# Altium footprint library PcbLib1.PcbLib: 202 footprints (part 3 of 13)
Each footprint in its own frame and in the unit in brackets; x right, y up, seen from the top. Pads: shape width x height; smd on the part's side, far side on the other; paste and mask are expansions set on the pad; w line width, h text height; cw(c..) or ccw(c..) is an arc to the next point about the centre after c.
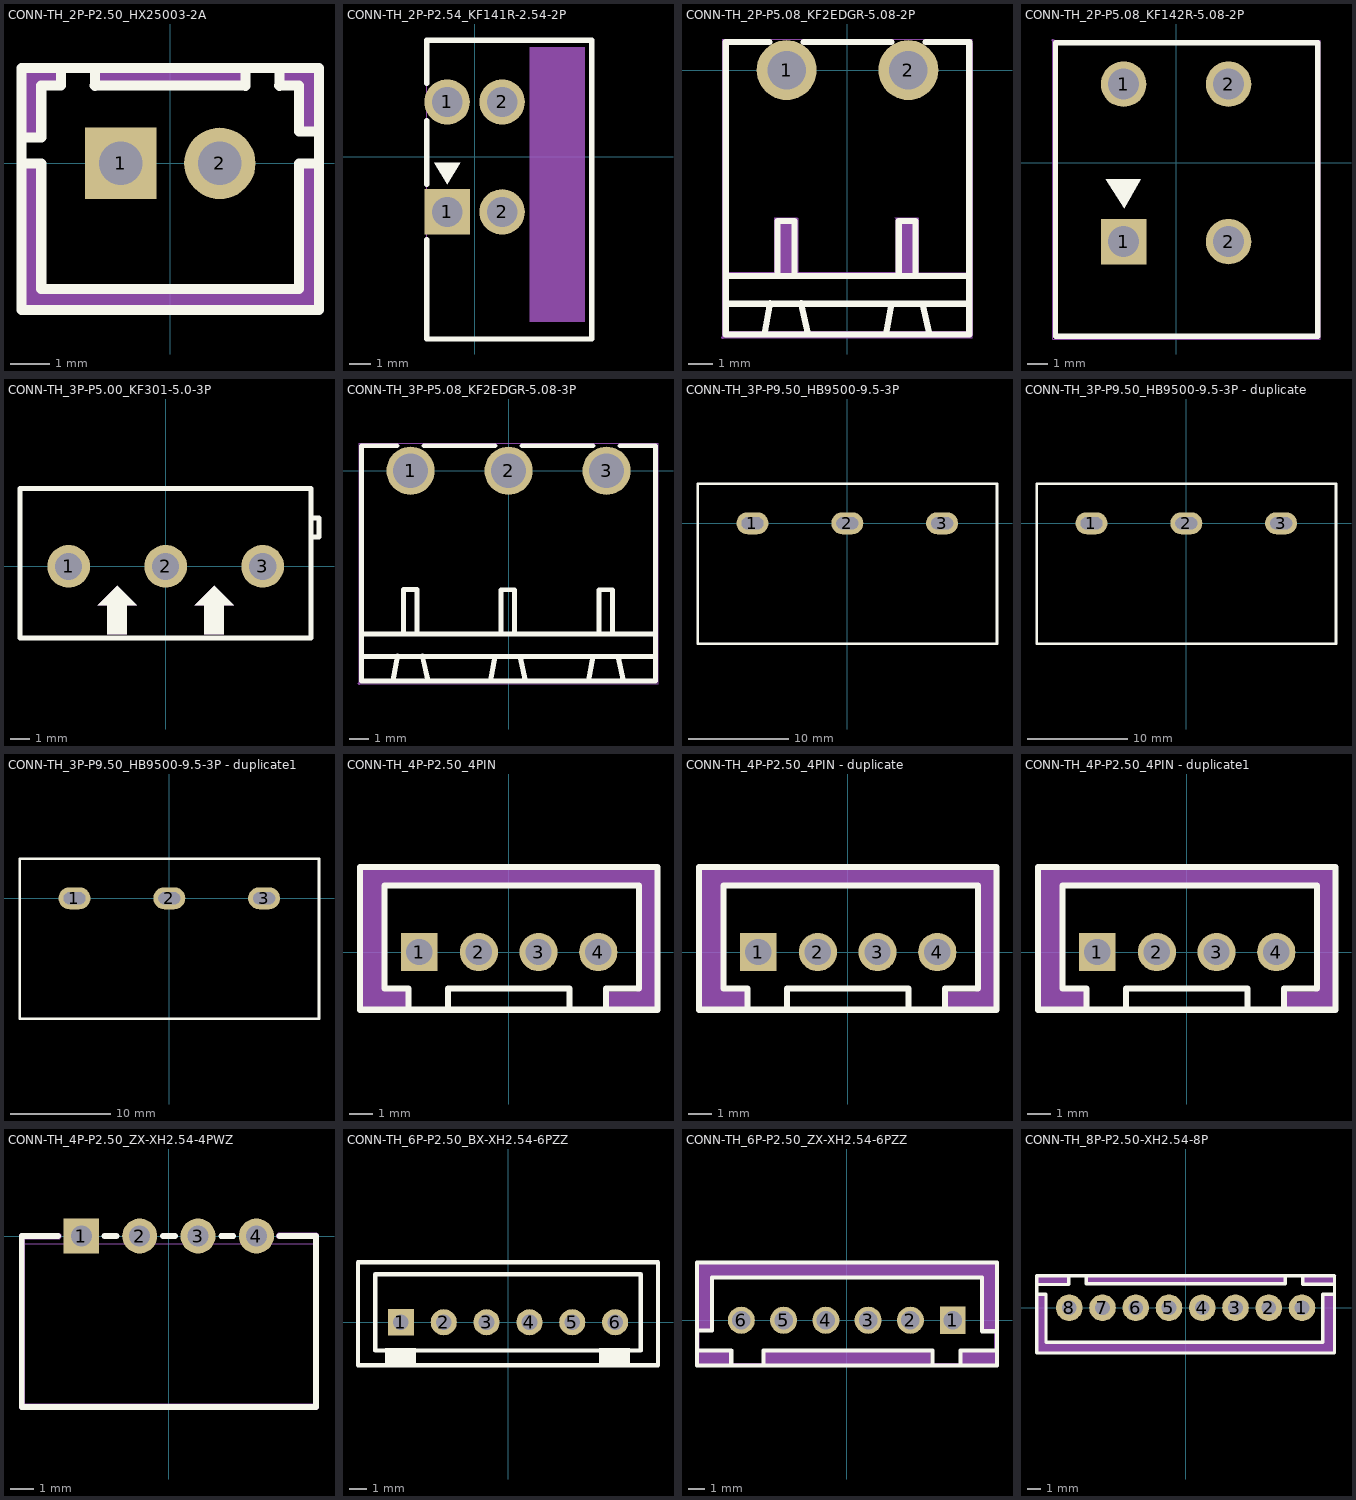
[diagram p2: the footprints below, top view; thin cyan lines are the x and y axes]

## CONN-TH_2P-P2.50_HX25003-2A [mm]
pads (2):
  rect 1.8x1.8 hole 1.1 paste-2539.97 mask+0.05: 1(-1.25,0)
  round 1.8 hole 1.1 paste-2539.97 mask+0.05: 2(1.25,0)
Top Overlay:
  lines w0.254: -3.75,-2.416 -3.75,0 -3.25,0 -3.25,-2.416 -3.25,-3.167 3.25,-3.167 3.25,-2.344 3.25,0 3.75,0 3.75,-2.344 ; -3.75,-1.603 -3.75,0.648 -3.25,0.65 -3.25,1.958 -2.75,1.958 -2.75,2.408 ; -1.9,1.95 -1.9,2.4 ; -1.9,1.958 1.9,1.958 ; 1.9,1.95 1.9,2.4 ; 2.75,1.95 2.75,2.399 ; 2.75,1.958 3.25,1.958 3.25,0.8 3.75,0.8 3.75,-1.501 ; -3.75,-3.7 3.75,-3.7 3.75,2.4 -3.75,2.4 -3.75,-3.7
Mechanical 6:
  region: 2.75,1.95 3.242,1.95 3.25,1.958 3.25,0.8 3.75,0.8 3.75,2.4 2.751,2.4 2.75,2.399
  region: -2.75,1.9 -3.241,1.9 -3.25,1.908 -3.25,0.75 -3.75,0.75 -3.75,2.35 -2.751,2.35 -2.75,2.349
  region: 3.25,0 3.75,0 3.75,-3.7 -3.75,-3.7 -3.75,-0.05 -3.25,0 -3.25,-3.167 3.25,-3.167
  region: 1.9,2.4 1.9,1.9 -1.9,1.9 -1.9,2.4
Mechanical 15:
  region: 0.93,0.32 1.57,0.32 1.57,-0.32 0.93,-0.32
  region: -1.57,0.32 -0.93,0.32 -0.93,-0.32 -1.57,-0.32
  region: -3.69,-3.5 -3.69,-3.475 -3.725,-3.44 -3.775,-3.44 -3.81,-3.475 -3.81,-3.5 -3.81,-3.525 -3.775,-3.56 -3.725,-3.56 -3.69,-3.525
  lines w0.051: -3.75,-3.5 -3.75,2.4 3.75,2.4 3.75,-3.5 -3.75,-3.5

## CONN-TH_2P-P2.54_KF141R-2.54-2P [mm]
pads (4):
  rect 2.1x2.1 hole 1.4: 1(-1.27,-2.54)
  round 2.1 hole 1.4: 1(-1.27,2.54) 2(1.27,-2.54) 2(1.27,2.54)
Top Overlay:
  region: -1.27,-1.27 -0.67,-0.27 -1.87,-0.27
  lines w0.254: -2.22,-3.821 -2.22,-8.41 5.4,-8.41 5.4,5.39 -2.22,5.39 -2.22,3.398 ; -2.22,-1.259 -2.22,1.682
Mechanical 6:
  region: 2.54,5.08 2.54,-7.62 5.08,-7.62 5.08,5.08
Mechanical 15:
  region: -2.16,5.39 -2.16,5.415 -2.195,5.45 -2.245,5.45 -2.28,5.415 -2.28,5.39 -2.28,5.365 -2.245,5.33 -2.195,5.33 -2.16,5.365
  region: -1.02,2.19 -1.52,2.19 -1.52,2.89 -1.02,2.89
  region: 1.52,2.19 1.02,2.19 1.02,2.89 1.52,2.89
  region: 1.52,-2.89 1.02,-2.89 1.02,-2.19 1.52,-2.19
  region: -1.02,-2.19 -1.02,-2.89 -1.52,-2.89 -1.52,-2.19
  lines w0.051: -2.22,-8.41 -2.22,5.39 5.4,5.39 5.4,-8.41 -2.22,-8.41

## CONN-TH_2P-P5.08_KF2EDGR-5.08-2P [mil]
pads (2):
  round 98.4 hole 63: 1(-100,0) 2(100,0)
Top Overlay:
  lines w10: -200,-383.7 200,-383.7 ; -200,-338 200,-338 ; -136.2,-433.4 -127,-382.9 ; -127.9,46.1 -200,46.1 -200,-434.2 200,-434.2 200,46.1 127.8,46.1 ; -114.7,-335.6 -114.7,-247.7 -87,-247.7 -87,-335.6 -87,-332.7 ; -76,-382.9 -64.5,-433.4 ; -72.2,46.1 72.1,46.1 ; 63,-434.2 72.2,-383.8 ; 84.2,-335.7 84.2,-247.8 111.9,-247.8 111.9,-335.7 111.9,-332.8 ; 123.2,-383.8 134.7,-434.2
Mechanical 2:
  region: -200,-332.1 -120,-332.1 -120,-242.8 -120.4,-242.5 -82.2,-242.5 -81.1,-243.6 -81.1,-331 -80.4,-331.7 78.5,-331.7 78.9,-332.1 78.9,-243.9 77.8,-242.8 116.6,-242.8 117,-243.2 117,-332.5 117.4,-332.8 204.8,-332.8 205.2,-333.2 205.2,-342.8 -199.6,-342.8 -200,-343.2
  region: -195.8,46.1 -195.8,-429.2 195.7,-429.2 195.7,42.2 196.1,44.1 197.2,45.7 198.8,46.8 200.7,47.2 202.7,46.8 204.3,45.7 205.4,44.1 205.7,42.2 205.7,-434.2 205.4,-436.1 204.3,-437.7 202.7,-438.8 200.7,-439.2 -200.8,-439.2 -202.7,-438.8 -204.4,-437.7 -205.4,-436.1 -205.8,-434.2 -205.8,46.1 -205.4,48 -204.4,49.7 -202.7,50.8 -200.8,51.1 -198.9,50.8 -197.3,49.7 -196.2,48
Mechanical 6:
  lines w2: -205,-439.2 205,-439.2 205,51.1 -205,51.1 -205,-439.2
Mechanical 8:
  region: -202.7,-439.2 -203.1,-440.5 -204.1,-441.4 -205.4,-441.6 -206.6,-441 -207.3,-439.9 -207.3,-438.6 -206.6,-437.5 -205.4,-436.9 -204.1,-437.1 -203.1,-438
Mechanical 9:
  region: 80.3,19.6 119.6,19.6 119.6,-19.7 80.3,-19.7
  region: -119.7,19.6 -80.4,19.6 -80.4,-19.7 -119.7,-19.7

## CONN-TH_2P-P5.08_KF142R-5.08-2P [mm]
pads (4):
  rect 2.2x2.2 hole 1.5: 1(-2.54,-3.81)
  round 2.2 hole 1.5: 1(-2.54,3.81) 2(2.54,-3.81) 2(2.54,3.81)
Top Overlay:
  region: -2.5,-2.2 -1.7,-0.8 -3.4,-0.8
  lines w0.254: 6.86,-8.4 6.86,5.8 ; 6.86,-8.39 -5.84,-8.39 -5.84,5.81 6.86,5.81
Mechanical 15:
  region: -5.907,5.937 -5.907,5.962 -5.942,5.997 -5.992,5.997 -6.027,5.962 -6.027,5.937 -6.027,5.912 -5.992,5.877 -5.942,5.877 -5.907,5.912
  region: 3.19,-3.81 3.19,-3.724 3.146,-3.559 3.06,-3.411 2.939,-3.29 2.791,-3.204 2.626,-3.16 2.454,-3.16 2.289,-3.204 2.141,-3.29 2.02,-3.411 1.934,-3.559 1.89,-3.724 1.89,-3.81 1.89,-3.896 1.934,-4.061 2.02,-4.209 2.141,-4.33 2.289,-4.416 2.454,-4.46 2.626,-4.46 2.791,-4.416 2.939,-4.33 3.06,-4.209 3.146,-4.061 3.19,-3.896
  region: -1.89,-3.81 -1.89,-3.724 -1.934,-3.559 -2.02,-3.411 -2.141,-3.29 -2.289,-3.204 -2.454,-3.16 -2.626,-3.16 -2.791,-3.204 -2.939,-3.29 -3.06,-3.411 -3.146,-3.559 -3.19,-3.724 -3.19,-3.81 -3.19,-3.896 -3.146,-4.061 -3.06,-4.209 -2.939,-4.33 -2.791,-4.416 -2.626,-4.46 -2.454,-4.46 -2.289,-4.416 -2.141,-4.33 -2.02,-4.209 -1.934,-4.061 -1.89,-3.896
  region: 3.19,3.81 3.19,3.896 3.146,4.061 3.06,4.209 2.939,4.33 2.791,4.416 2.626,4.46 2.454,4.46 2.289,4.416 2.141,4.33 2.02,4.209 1.934,4.061 1.89,3.896 1.89,3.81 1.89,3.724 1.934,3.559 2.02,3.411 2.141,3.29 2.289,3.204 2.454,3.16 2.626,3.16 2.791,3.204 2.939,3.29 3.06,3.411 3.146,3.559 3.19,3.724
  region: -1.89,3.81 -1.89,3.896 -1.934,4.061 -2.02,4.209 -2.141,4.33 -2.289,4.416 -2.454,4.46 -2.626,4.46 -2.791,4.416 -2.939,4.33 -3.06,4.209 -3.146,4.061 -3.19,3.896 -3.19,3.81 -3.19,3.724 -3.146,3.559 -3.06,3.411 -2.939,3.29 -2.791,3.204 -2.626,3.16 -2.454,3.16 -2.289,3.204 -2.141,3.29 -2.02,3.411 -1.934,3.559 -1.89,3.724
  lines w0.051: -5.967,-8.527 -5.967,5.937 6.987,5.937 6.987,-8.527 -5.967,-8.527

## CONN-TH_3P-P5.00_KF301-5.0-3P [mm]
pads (3):
  round 2.2 hole 1.4: 1(-4.999,0) 2(0,0) 3(5.001,0)
Top Overlay:
  region: -2.499,-0.998 -3.5,-1.999 -1.499,-1.999
  region: -3,-1.999 -1.999,-1.999 -1.999,-3.5 -3,-3.5
  region: 2.502,-0.998 1.501,-1.999 3.5,-1.999
  region: 2.002,-1.999 3,-1.999 3,-3.5 2.002,-3.5
  lines w0.254: 7.501,1.501 7.902,1.501 7.902,2.502 7.501,2.502 ; -7.498,-3.698 7.501,-3.698 7.501,4 -7.498,4 -7.498,-3.698
Mechanical 2:
  region: -3,-1.999 -1.999,-1.999 -1.999,-3.5 -3,-3.5
  region: -2.499,-0.998 -3.5,-1.999 -1.499,-1.999
  region: 2.502,-0.998 1.501,-1.999 3.5,-1.999
  region: 2.002,-1.999 3,-1.999 3,-3.5 2.002,-3.5
Mechanical 6:
  lines w0.051: -7.498,-3.698 -7.498,4 7.501,4 7.501,-3.698 -7.498,-3.698
Mechanical 8:
  region: -7.44,-3.698 -7.45,-3.731 -7.475,-3.754 -7.508,-3.759 -7.539,-3.744 -7.556,-3.716 -7.556,-3.683 -7.539,-3.655 -7.508,-3.64 -7.475,-3.645 -7.45,-3.668
Mechanical 9:
  region: 5.601,0 5.591,-0.107 5.563,-0.211 5.517,-0.307 5.453,-0.394 5.375,-0.467 5.286,-0.528 5.187,-0.569 5.083,-0.594 4.973,-0.599 4.867,-0.584 4.765,-0.551 4.671,-0.5 4.587,-0.432 4.516,-0.353 4.46,-0.259 4.422,-0.16 4.404,-0.053 4.404,0.053 4.422,0.16 4.46,0.262 4.516,0.353 4.587,0.434 4.671,0.5 4.765,0.554 4.867,0.587 4.973,0.599 5.083,0.594 5.187,0.572 5.286,0.528 5.375,0.47 5.453,0.396 5.517,0.307 5.563,0.211 5.591,0.107
  region: 0.602,0 0.592,-0.107 0.564,-0.211 0.516,-0.307 0.452,-0.394 0.376,-0.467 0.284,-0.528 0.185,-0.569 0.081,-0.594 -0.025,-0.599 -0.132,-0.584 -0.234,-0.551 -0.33,-0.5 -0.414,-0.432 -0.485,-0.353 -0.538,-0.259 -0.577,-0.16 -0.597,-0.053 -0.597,0.053 -0.577,0.16 -0.538,0.262 -0.485,0.353 -0.414,0.434 -0.33,0.5 -0.234,0.554 -0.132,0.587 -0.025,0.599 0.081,0.594 0.185,0.572 0.284,0.528 0.376,0.47 0.452,0.396 0.516,0.307 0.564,0.211 0.592,0.107
  region: -4.399,0 -4.409,-0.107 -4.437,-0.211 -4.483,-0.307 -4.547,-0.394 -4.625,-0.467 -4.714,-0.528 -4.813,-0.569 -4.917,-0.594 -5.027,-0.599 -5.133,-0.584 -5.235,-0.551 -5.329,-0.5 -5.413,-0.432 -5.484,-0.353 -5.54,-0.259 -5.578,-0.16 -5.596,-0.053 -5.596,0.053 -5.578,0.16 -5.54,0.262 -5.484,0.353 -5.413,0.434 -5.329,0.5 -5.235,0.554 -5.133,0.587 -5.027,0.599 -4.917,0.594 -4.813,0.572 -4.714,0.528 -4.625,0.47 -4.547,0.396 -4.483,0.307 -4.437,0.211 -4.409,0.107

## CONN-TH_3P-P5.08_KF2EDGR-5.08-3P [mm]
pads (3):
  round 2.499 hole 1.801: 1(-5.08,0) 2(0,0) 3(5.08,0)
Top Overlay:
  lines w0.254: -7.62,-9.619 7.62,-9.619 ; -7.62,-8.458 7.62,-8.458 ; -5.999,-10.881 -5.766,-9.599 ; -5.789,1.298 -7.62,1.298 -7.62,-10.902 7.62,-10.902 7.62,1.298 5.786,1.298 ; -5.453,-8.397 -5.453,-6.165 -4.75,-6.165 -4.75,-8.397 -4.75,-8.324 ; -4.47,-9.599 -4.178,-10.881 ; -4.374,1.298 -0.709,1.298 ; -0.94,-10.902 -0.706,-9.622 ; -0.401,-8.4 -0.401,-6.167 0.302,-6.167 0.302,-8.4 0.302,-8.326 ; 0.589,-9.622 0.881,-10.902 ; 0.706,1.298 4.371,1.298 ; 4.14,-10.902 4.374,-9.622 ; 4.679,-8.402 4.679,-6.17 5.382,-6.17 5.382,-8.402 ; 5.669,-9.622 5.961,-10.902
Mechanical 6:
  lines w0.051: -7.747,-11.029 -7.747,1.425 7.747,1.425 7.747,-11.029 -7.747,-11.029
Mechanical 8:
  region: -7.689,-11.029 -7.699,-11.062 -7.724,-11.085 -7.757,-11.09 -7.788,-11.074 -7.805,-11.046 -7.805,-11.013 -7.788,-10.986 -7.757,-10.97 -7.724,-10.975 -7.699,-10.998
Mechanical 9:
  region: 5.88,0 5.87,-0.127 5.839,-0.249 5.791,-0.363 5.725,-0.472 5.644,-0.566 5.55,-0.648 5.443,-0.714 5.326,-0.762 5.204,-0.792 5.08,-0.8 4.953,-0.792 4.831,-0.762 4.717,-0.714 4.608,-0.648 4.514,-0.566 4.432,-0.472 4.366,-0.363 4.318,-0.249 4.29,-0.127 4.28,0 4.29,0.124 4.318,0.246 4.366,0.361 4.432,0.47 4.514,0.564 4.608,0.645 4.717,0.711 4.831,0.759 4.953,0.79 5.08,0.798 5.204,0.79 5.326,0.759 5.443,0.711 5.55,0.645 5.644,0.564 5.725,0.47 5.791,0.361 5.839,0.246 5.87,0.124
  region: 0.8,0 0.79,-0.127 0.759,-0.249 0.711,-0.363 0.645,-0.472 0.564,-0.566 0.47,-0.648 0.363,-0.714 0.246,-0.762 0.124,-0.792 0,-0.8 -0.127,-0.792 -0.249,-0.762 -0.363,-0.714 -0.472,-0.648 -0.566,-0.566 -0.648,-0.472 -0.714,-0.363 -0.762,-0.249 -0.79,-0.127 -0.8,0 -0.79,0.124 -0.762,0.246 -0.714,0.361 -0.648,0.47 -0.566,0.564 -0.472,0.645 -0.363,0.711 -0.249,0.759 -0.127,0.79 0,0.798 0.124,0.79 0.246,0.759 0.363,0.711 0.47,0.645 0.564,0.564 0.645,0.47 0.711,0.361 0.759,0.246 0.79,0.124
  region: -4.28,0 -4.29,-0.127 -4.321,-0.249 -4.369,-0.363 -4.435,-0.472 -4.516,-0.566 -4.61,-0.648 -4.717,-0.714 -4.834,-0.762 -4.956,-0.792 -5.08,-0.8 -5.207,-0.792 -5.329,-0.762 -5.443,-0.714 -5.552,-0.648 -5.646,-0.566 -5.728,-0.472 -5.794,-0.363 -5.842,-0.249 -5.87,-0.127 -5.88,0 -5.87,0.124 -5.842,0.246 -5.794,0.361 -5.728,0.47 -5.646,0.564 -5.552,0.645 -5.443,0.711 -5.329,0.759 -5.207,0.79 -5.08,0.798 -4.956,0.79 -4.834,0.759 -4.717,0.711 -4.61,0.645 -4.516,0.564 -4.435,0.47 -4.369,0.361 -4.321,0.246 -4.29,0.124

## CONN-TH_3P-P9.50_HB9500-9.5-3P [mm]
pads (3):
  oval 3.2x2.2 hole 1.2 slot 2.2 at 0 deg copper offset 0,-0.001: 1(-9.5,0.001)
  oval 3.2x2.2 hole 1.2 slot 2.2 at 0 deg: 2(0,0) 3(9.5,0)
Top Overlay:
  lines w0.254: -15,-12.05 -15,3.95 15,3.95 15,-12.05 -15,-12.05
Mechanical 15:
  region: -10,0.479 -8.999,0.479 -8.999,-0.481 -10,-0.481
  region: -0.5,0.48 0.5,0.48 0.5,-0.48 -0.5,-0.48
  region: 8.999,0.48 10,0.48 10,-0.48 8.999,-0.48
  region: -14.94,-12.05 -14.94,-12.025 -14.975,-11.99 -15.025,-11.99 -15.06,-12.025 -15.06,-12.05 -15.06,-12.075 -15.025,-12.11 -14.975,-12.11 -14.94,-12.075
  lines w0.051: -15,-12.05 -15,3.95 15,3.95 15,-12.05 -15,-12.05

## CONN-TH_3P-P9.50_HB9500-9.5-3P - duplicate [mm]
pads (3):
  oval 3.2x2.2 hole 1.2 slot 2.2 at 0 deg copper offset 0,-0.001: 1(-9.5,0.001)
  oval 3.2x2.2 hole 1.2 slot 2.2 at 0 deg: 2(0,0) 3(9.5,0)
Top Overlay:
  lines w0.254: -15,-12.05 15,-12.05 15,3.95 -15,3.95 -15,-12.05
Mechanical 15:
  region: -14.94,-12.05 -14.94,-12.025 -14.975,-11.99 -15.025,-11.99 -15.06,-12.025 -15.06,-12.05 -15.06,-12.075 -15.025,-12.11 -14.975,-12.11 -14.94,-12.075
  region: 8.999,0.48 10,0.48 10,-0.48 8.999,-0.48
  region: -0.5,0.48 0.5,0.48 0.5,-0.48 -0.5,-0.48
  region: -10,0.479 -8.999,0.479 -8.999,-0.481 -10,-0.481
  lines w0.051: -15,-12.05 15,-12.05 15,3.95 -15,3.95 -15,-12.05

## CONN-TH_3P-P9.50_HB9500-9.5-3P - duplicate1 [mm]
pads (3):
  oval 3.2x2.2 hole 1.2 slot 2.2 at 0 deg copper offset 0,-0.001: 1(-9.5,0.001)
  oval 3.2x2.2 hole 1.2 slot 2.2 at 0 deg: 2(0,0) 3(9.5,0)
Top Overlay:
  lines w0.254: -15,-12.05 15,-12.05 15,3.95 -15,3.95 -15,-12.05
Mechanical 15:
  region: -14.94,-12.05 -14.94,-12.025 -14.975,-11.99 -15.025,-11.99 -15.06,-12.025 -15.06,-12.05 -15.06,-12.075 -15.025,-12.11 -14.975,-12.11 -14.94,-12.075
  region: 8.999,0.48 10,0.48 10,-0.48 8.999,-0.48
  region: -0.5,0.48 0.5,0.48 0.5,-0.48 -0.5,-0.48
  region: -10,0.479 -8.999,0.479 -8.999,-0.481 -10,-0.481
  lines w0.051: -15,-12.05 15,-12.05 15,3.95 -15,3.95 -15,-12.05

## CONN-TH_4P-P2.50_4PIN [mm]
pads (4):
  rect 1.524x1.6 hole 1.1: 1(-3.75,0)
  round 1.6 hole 1.1: 2(-1.25,0) 3(1.25,0) 4(3.75,0)
Top Overlay:
  lines w0.254: -4.191,-2.413 -4.191,-2.286 -4.191,-1.524 -5.207,-1.524 -5.207,2.794 5.461,2.794 5.461,-1.524 4.064,-1.524 4.064,-2.286 ; -2.54,-2.413 -2.54,-1.524 2.54,-1.524 2.54,-2.413 ; -6.223,-2.413 6.223,-2.413 6.223,3.556 -6.223,3.556 -6.223,-2.413
Mechanical 6:
  region: 4.064,-2.413 4.064,-1.651 5.334,-1.651 5.461,-1.524 5.461,2.794 -5.207,2.794 -5.207,-1.524 -4.191,-1.524 -4.191,-2.413 -6.223,-2.413 -6.223,3.556 6.223,3.556 6.223,-2.413
Mechanical 15:
  region: -6.19,-2.4 -6.19,-2.375 -6.225,-2.34 -6.275,-2.34 -6.31,-2.375 -6.31,-2.4 -6.31,-2.425 -6.275,-2.46 -6.225,-2.46 -6.19,-2.425
  region: -4.07,0.32 -3.43,0.32 -3.43,-0.32 -4.07,-0.32
  region: -1.57,0.32 -0.93,0.32 -0.93,-0.32 -1.57,-0.32
  region: 0.93,0.32 1.57,0.32 1.57,-0.32 0.93,-0.32
  region: 3.43,0.32 4.07,0.32 4.07,-0.32 3.43,-0.32
  lines w0.051: -6.25,-2.4 -6.25,3.5 6.25,3.5 6.25,-2.4 -6.25,-2.4

## CONN-TH_4P-P2.50_4PIN - duplicate [mm]
pads (4):
  rect 1.524x1.6 hole 1.1: 1(-3.75,0)
  round 1.6 hole 1.1: 2(-1.25,0) 3(1.25,0) 4(3.75,0)
Top Overlay:
  lines w0.254: -4.191,-2.413 -4.191,-2.286 -4.191,-1.524 -5.207,-1.524 -5.207,2.794 5.461,2.794 5.461,-1.524 4.064,-1.524 4.064,-2.286 ; -2.54,-2.413 -2.54,-1.524 2.54,-1.524 2.54,-2.413 ; -6.223,-2.413 -6.223,3.556 6.223,3.556 6.223,-2.413 -6.223,-2.413
Mechanical 6:
  region: 4.064,-2.413 4.064,-1.651 5.334,-1.651 5.461,-1.524 5.461,2.794 -5.207,2.794 -5.207,-1.524 -4.191,-1.524 -4.191,-2.413 -6.223,-2.413 -6.223,3.556 6.223,3.556 6.223,-2.413
Mechanical 15:
  region: 3.43,0.32 4.07,0.32 4.07,-0.32 3.43,-0.32
  region: 0.93,0.32 1.57,0.32 1.57,-0.32 0.93,-0.32
  region: -1.57,0.32 -0.93,0.32 -0.93,-0.32 -1.57,-0.32
  region: -4.07,0.32 -3.43,0.32 -3.43,-0.32 -4.07,-0.32
  region: -6.19,-2.4 -6.19,-2.375 -6.225,-2.34 -6.275,-2.34 -6.31,-2.375 -6.31,-2.4 -6.31,-2.425 -6.275,-2.46 -6.225,-2.46 -6.19,-2.425
  lines w0.051: -6.25,-2.4 6.25,-2.4 6.25,3.5 -6.25,3.5 -6.25,-2.4

## CONN-TH_4P-P2.50_4PIN - duplicate1 [mm]
pads (4):
  rect 1.524x1.6 hole 1.1: 1(-3.75,0)
  round 1.6 hole 1.1: 2(-1.25,0) 3(1.25,0) 4(3.75,0)
Top Overlay:
  lines w0.254: -4.191,-2.413 -4.191,-2.286 -4.191,-1.524 -5.207,-1.524 -5.207,2.794 5.461,2.794 5.461,-1.524 4.064,-1.524 4.064,-2.286 ; -2.54,-2.413 -2.54,-1.524 2.54,-1.524 2.54,-2.413 ; -6.223,-2.413 -6.223,3.556 6.223,3.556 6.223,-2.413 -6.223,-2.413
Mechanical 6:
  region: 4.064,-2.413 4.064,-1.651 5.334,-1.651 5.461,-1.524 5.461,2.794 -5.207,2.794 -5.207,-1.524 -4.191,-1.524 -4.191,-2.413 -6.223,-2.413 -6.223,3.556 6.223,3.556 6.223,-2.413
Mechanical 15:
  region: 3.43,0.32 4.07,0.32 4.07,-0.32 3.43,-0.32
  region: 0.93,0.32 1.57,0.32 1.57,-0.32 0.93,-0.32
  region: -1.57,0.32 -0.93,0.32 -0.93,-0.32 -1.57,-0.32
  region: -4.07,0.32 -3.43,0.32 -3.43,-0.32 -4.07,-0.32
  region: -6.19,-2.4 -6.19,-2.375 -6.225,-2.34 -6.275,-2.34 -6.31,-2.375 -6.31,-2.4 -6.31,-2.425 -6.275,-2.46 -6.225,-2.46 -6.19,-2.425
  lines w0.051: -6.25,-2.4 6.25,-2.4 6.25,3.5 -6.25,3.5 -6.25,-2.4

## CONN-TH_4P-P2.50_ZX-XH2.54-4PWZ [mm]
pads (4):
  rect 1.524x1.5 hole 0.9 paste-2539.97 mask+0.05: 1(-3.75,0)
  round 1.5 hole 0.9 paste-2539.97 mask+0.05: 2(-1.25,0) 3(1.25,0) 4(3.75,0)
Top Overlay:
  lines w0.254: -4.743,0 -6.303,0 -6.303,-7.32 6.303,-7.32 ; -2.757,0 -2.243,0 ; -0.257,0 0.257,0 ; 2.243,0 2.757,0 ; 4.743,0 6.303,0 6.303,-7.239
Mechanical 6:
  region: -4.735,-0.127 -6.168,-0.127 -6.168,-7.188 6.178,-7.188 6.178,-0.122 4.735,-0.122 4.682,-0.122 4.608,-0.048 4.608,0.058 4.682,0.132 4.735,0.132 6.305,0.132 6.33,0.132 6.377,0.113 6.413,0.077 6.432,0.03 6.432,0.005 6.432,-7.315 6.432,-7.34 6.413,-7.387 6.377,-7.423 6.33,-7.442 6.305,-7.442 -6.295,-7.442 -6.32,-7.442 -6.367,-7.423 -6.403,-7.387 -6.422,-7.34 -6.422,-7.315 -6.422,0 -6.422,0.025 -6.403,0.072 -6.367,0.108 -6.32,0.127 -6.295,0.127 -4.735,0.127 -4.682,0.127 -4.608,0.053 -4.608,-0.053 -4.682,-0.127
Mechanical 15:
  region: -4.07,0.32 -3.43,0.32 -3.43,-0.32 -4.07,-0.32
  region: -1.57,0.32 -0.93,0.32 -0.93,-0.32 -1.57,-0.32
  region: 0.93,0.32 1.57,0.32 1.57,-0.32 0.93,-0.32
  region: 3.43,0.32 4.07,0.32 4.07,-0.32 3.43,-0.32
  region: 3.43,-0.32 3.43,-0.31 4.065,-0.31 4.07,-0.305 4.07,-0.33 3.43,-0.33
  region: 0.93,-0.32 0.93,-0.31 1.565,-0.31 1.57,-0.305 1.57,-0.33 0.93,-0.33
  region: -1.57,-0.32 -1.57,-0.31 -0.935,-0.31 -0.93,-0.305 -0.93,-0.33 -1.57,-0.33
  region: -4.07,-0.32 -4.07,-0.31 -3.435,-0.31 -3.43,-0.305 -3.43,-0.33 -4.07,-0.33
  region: -6.19,-7.32 -6.191,-7.296 -6.226,-7.262 -6.274,-7.262 -6.309,-7.296 -6.31,-7.32 -6.309,-7.344 -6.274,-7.378 -6.226,-7.378 -6.191,-7.344
  lines w0.051: -6.25,-7.32 -6.25,-0.32 6.25,-0.32 6.25,-7.32 -6.25,-7.32

## CONN-TH_6P-P2.50_BX-XH2.54-6PZZ [mil]
pads (6):
  rect 60x60 hole 36: 1(-246.06,0)
  round 60 hole 36: 2(-147.62,0) 3(-49.21,0) 4(49.23,0) 5(147.64,0) 6(246.07,0)
Top Overlay:
  region: 209.76,-60 279.76,-60 279.76,-100 209.76,-100
  region: -282.37,-60 -212.37,-60 -212.37,-100 -282.37,-100
  lines w10: -344.5,-98.42 -344.5,137.79 344.48,137.79 344.49,-98.42 -344.5,-98.42 ; -305,-65 -305,110 305,110 305,-65 -305,-65

## CONN-TH_6P-P2.50_ZX-XH2.54-6PZZ [mm]
pads (6):
  rect 1.524x1.6 hole 1.1: 1(6.25,0)
  round 1.6 hole 1.1 copper offset 0,0: 2(3.75,0) 4(-1.25,0) 5(-3.75,0) 6(-6.25,0)
  round 1.6 hole 1.1: 3(1.25,0)
Top Overlay:
  lines w0.254: -8.87,-1.794 -6.838,-1.794 -6.838,-2.679 ; -8.869,-0.604 -7.98,-0.604 -7.98,2.528 5.482,2.528 7.982,2.528 7.982,-0.647 8.871,-0.647 ; -4.936,-2.679 -4.936,-1.79 2.56,-1.79 5.06,-1.79 5.06,-2.679 ; 6.718,-2.679 6.718,-1.794 8.75,-1.794 ; -8.87,-2.679 -8.87,3.417 6.37,3.417 8.87,3.417 8.87,-2.679 6.37,-2.679 -8.87,-2.679
Mechanical 6:
  region: -8.87,-1.794 -6.838,-1.794 -6.838,-2.679 -8.87,-2.679
  region: -4.936,-1.79 -4.936,-2.676 -4.933,-2.679 4.933,-2.679 4.933,-1.79
  region: 6.718,-1.794 6.718,-2.679 8.87,-2.679 8.87,-1.914 8.87,-1.79 8.75,-1.794
  region: 8.87,-0.635 7.994,-0.635 7.982,-0.647 7.982,2.528 -7.98,2.528 -7.98,-0.604 -8.869,-0.604 -8.869,3.416 -8.87,3.417 8.87,3.417
Mechanical 15:
  region: -8.69,-2.55 -8.69,-2.525 -8.725,-2.491 -8.774,-2.491 -8.809,-2.525 -8.81,-2.55 -8.809,-2.574 -8.774,-2.609 -8.725,-2.609 -8.69,-2.574
  region: 0.93,0.32 1.57,0.32 1.57,-0.32 0.93,-0.32
  region: -1.57,0.32 -0.93,0.32 -0.93,-0.32 -1.57,-0.32
  region: -4.07,0.32 -3.43,0.32 -3.43,-0.32 -4.07,-0.32
  region: -6.57,0.32 -5.93,0.32 -5.93,-0.32 -6.57,-0.32
  region: 3.43,0.32 4.07,0.32 4.07,-0.32 3.43,-0.32
  region: 5.93,0.32 6.57,0.32 6.57,-0.32 5.93,-0.32
  lines w0.051: -8.75,-2.55 -8.75,3.35 8.75,3.35 8.75,-2.55 -8.75,-2.55

## CONN-TH_8P-P2.50-XH2.54-8P [mm]
pads (8):
  round 2 hole 1.1: 1(8.75,0) 2(6.25,0) 3(3.75,0) 4(1.25,0) 5(-1.25,0) 6(-3.75,0) 7(-6.25,0) 8(-8.75,0)
Top Overlay:
  lines w0.254: -11.2,1.017 -10.5,1.017 -10.5,-2.6 10.3,-2.6 10.3,1 11.2,1 ; -11.2,1.751 -8.8,1.751 -8.8,2.4 ; -7.467,2.4 -7.467,1.8 7.5,1.8 7.5,2.4 ; 8.8,2.4 8.8,1.759 11.2,1.759 ; -11.2,-3.4 11.2,-3.4 11.2,2.4 -11.2,2.4 -11.2,-3.4
Mechanical 6:
  region: -11.2,1.7 -11.2,2.4 -8.8,2.4 -8.8,1.751 -8.851,1.7
  region: -7.4,2.4 -7.4,1.867 -7.467,1.8 7.5,1.8 7.5,2.4
  region: 8.8,2.4 8.8,1.759 11.2,1.759 11.2,2.4
  region: 10.3,1 11.2,1 11.2,-3.4 -11.2,-3.4 -11.2,1.017 -10.5,1.017 -10.5,-2.6 10.3,-2.6
Mechanical 15:
  region: 8.43,0.32 9.07,0.32 9.07,-0.32 8.43,-0.32
  region: 5.93,0.32 6.57,0.32 6.57,-0.32 5.93,-0.32
  region: 3.43,0.32 4.07,0.32 4.07,-0.32 3.43,-0.32
  region: 0.93,0.32 1.57,0.32 1.57,-0.32 0.93,-0.32
  region: -1.57,0.32 -0.93,0.32 -0.93,-0.32 -1.57,-0.32
  region: -4.07,0.32 -3.43,0.32 -3.43,-0.32 -4.07,-0.32
  region: -6.57,0.32 -5.93,0.32 -5.93,-0.32 -6.57,-0.32
  region: -9.07,0.32 -8.43,0.32 -8.43,-0.32 -9.07,-0.32
  region: 11.31,2.4 11.309,2.424 11.274,2.457 11.226,2.457 11.191,2.424 11.19,2.4 11.191,2.376 11.226,2.343 11.274,2.343 11.309,2.376
  lines w0.051: -11.25,-3.4 11.25,-3.4 11.25,2.4 -11.25,2.4 -11.25,-3.4